# Altium schematic symbol library 连接器.SCHLIB: 54 symbols
Pins are listed as number, name and electrical type; pins without a type are passive.

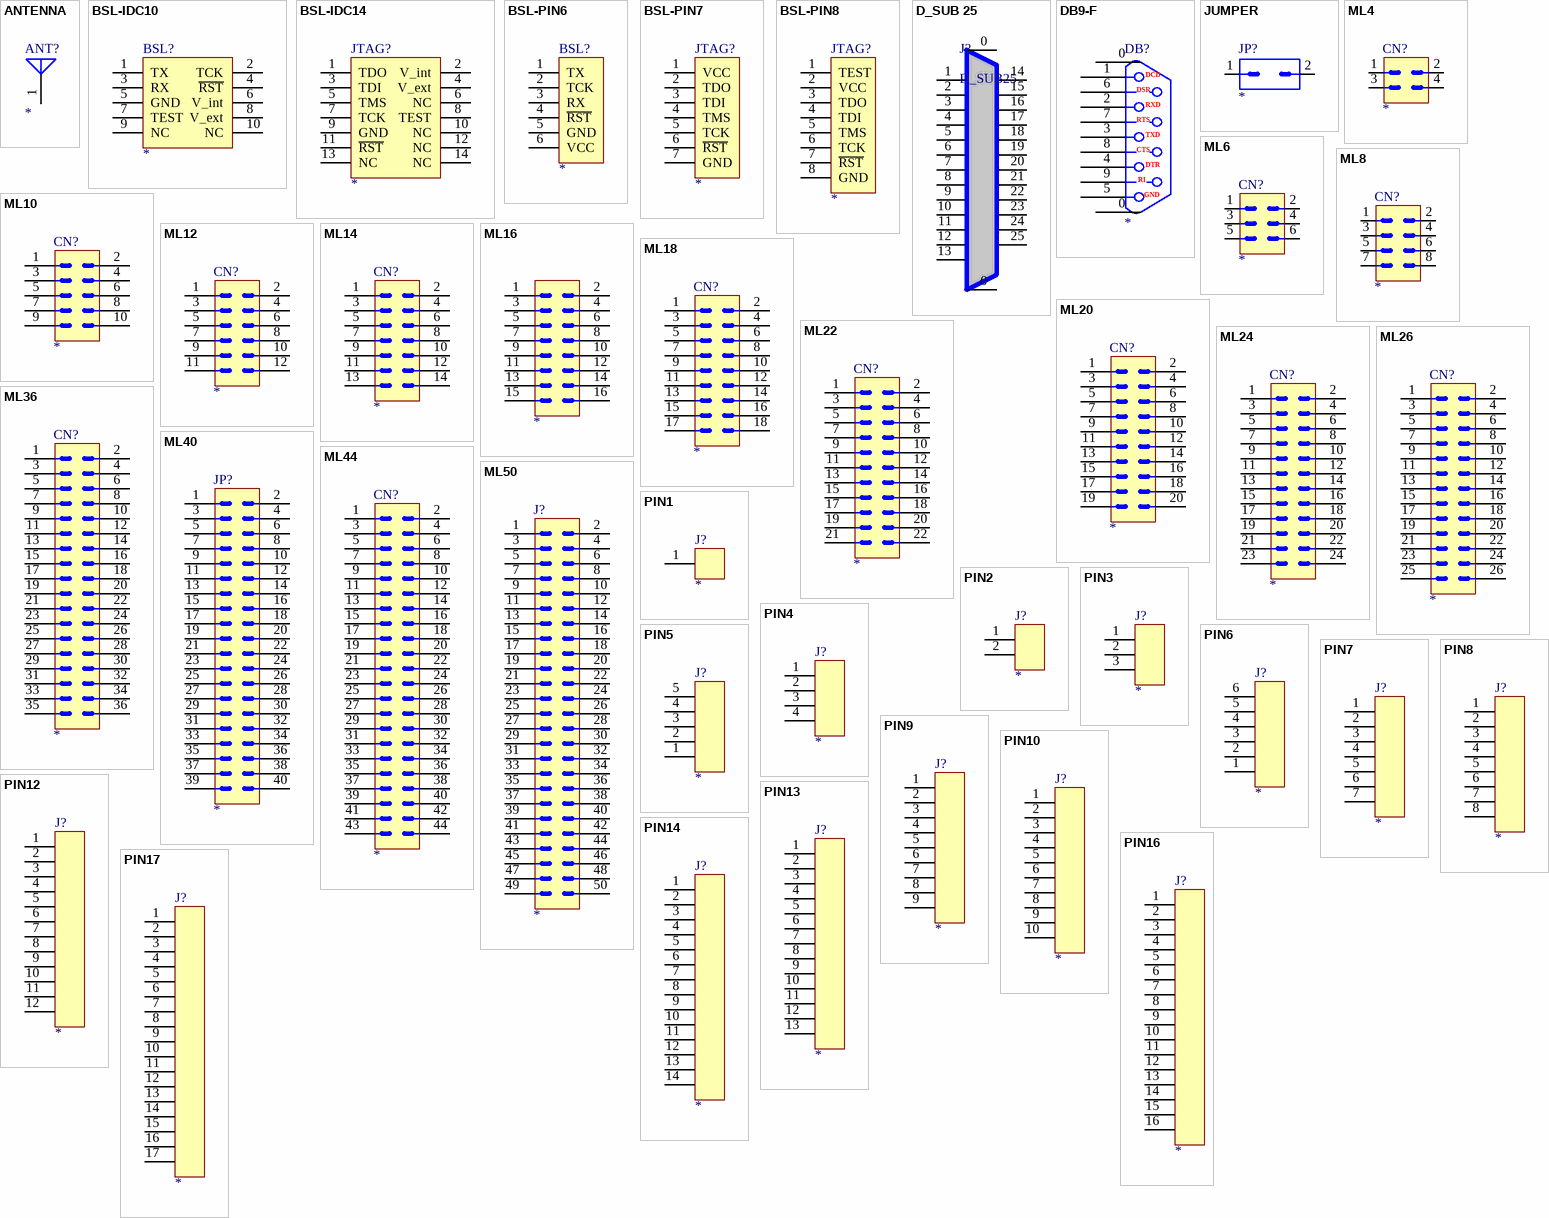
[diagram p0: symbols ANTENNA to PIN17]

## ANTENNA
designator ANT?
footprint AN1603
footprint AN9520
pins: 1

## BSL-IDC10
designator BSL?
pins: 1 TX, 2 TCK, 3 RX, 4 ~{RST}, 5 GND, 6 V_int, 7 TEST, 8 V_ext, 9 NC, 10 NC

## BSL-IDC14
designator JTAG?
footprint IDC14_A
footprint IDC14_A_JTAG
footprint IDC14_弯
footprint IDC14_2.0
pins: 1 TDO, 2 V_int, 3 TDI, 4 V_ext, 5 TMS, 6 NC, 7 TCK, 8 TEST, 9 GND, 10 NC, 11 ~{RST}, 12 NC, 13 NC, 14 NC

## BSL-PIN6
designator BSL?
footprint SIP6_BSL
footprint SIP6_2.0
footprint SIP6_1
footprint SIP6_1.27
pins: 1 TX, 2 TCK, 3 RX, 4 ~{RST}, 5 GND, 6 VCC

## BSL-PIN7
designator JTAG?
footprint SIP7_JTAG
footprint SIP7_2.0
footprint SIP7_1.27
pins: 1 VCC, 2 TDO, 3 TDI, 4 TMS, 5 TCK, 6 ~{RST}, 7 GND

## BSL-PIN8
designator JTAG?
footprint SIP8
footprint SIP8_2.0
pins: 1 TEST, 2 VCC, 3 TDO, 4 TDI, 5 TMS, 6 TCK, 7 ~{RST}, 8 GND

## D_SUB 25
designator J?, comment D_SUB25
pins: 0 25, 0 25, 1, 2, 3, 4, 5, 6, 7, 8, 9, 10, 11, 12, 13, 14, 15, 16, 17, 18, 19, 20, 21, 22, 23, 24, 25

## DB9-F
designator DB?
footprint DB9RA/F
footprint DB9/F
footprint DB9RA/M
footprint DB9/M
pins: 0, 0, 1 DCD, 2 RXD, 3 TXD, 4 DTR, 5 GND, 6 DSR, 7 RTS, 8 CTS, 9 RI

## JUMPER
designator JP?
footprint JMP
pins: 1, 2

## ML4
designator CN?
footprint IDC4
footprint IDC-4
pins: 1, 2, 3, 4

## ML6
designator CN?
footprint IDC6
footprint IDC-6
pins: 1, 2, 3, 4, 5, 6

## ML8
designator CN?
footprint IDC8
footprint IDC-8
pins: 1, 2, 3, 4, 5, 6, 7, 8

## ML10
designator CN?
footprint IDC10
footprint IDC-10
pins: 1, 2, 3, 4, 5, 6, 7, 8, 9, 10

## ML12
designator CN?
footprint IDC12
footprint IDC-12
pins: 1, 2, 3, 4, 5, 6, 7, 8, 9, 10, 11, 12

## ML14
designator CN?
footprint IDC14
footprint IDC-14
pins: 1, 2, 3, 4, 5, 6, 7, 8, 9, 10, 11, 12, 13, 14

## ML16
designator ?
pins: 1, 2, 3, 4, 5, 6, 7, 8, 9, 10, 11, 12, 13, 14, 15, 16

## ML18
designator CN?
footprint IDC18
footprint IDC-18
pins: 1, 2, 3, 4, 5, 6, 7, 8, 9, 10, 11, 12, 13, 14, 15, 16, 17, 18

## ML20
designator CN?
footprint IDC20
footprint IDC-20
footprint IDC20_1.0
pins: 1, 2, 3, 4, 5, 6, 7, 8, 9, 10, 11, 12, 13, 14, 15, 16, 17, 18, 19, 20

## ML22
designator CN?
footprint IDC22
pins: 1, 2, 3, 4, 5, 6, 7, 8, 9, 10, 11, 12, 13, 14, 15, 16, 17, 18, 19, 20, 21, 22

## ML24
designator CN?
footprint IDC24
footprint IDC24_2.0
pins: 1, 2, 3, 4, 5, 6, 7, 8, 9, 10, 11, 12, 13, 14, 15, 16, 17, 18, 19, 20, 21, 22, 23, 24

## ML26
designator CN?
footprint IDC26
pins: 1, 2, 3, 4, 5, 6, 7, 8, 9, 10, 11, 12, 13, 14, 15, 16, 17, 18, 19, 20, 21, 22, 23, 24, 25, 26

## ML36
designator CN?
footprint IDC36
pins: 1, 2, 3, 4, 5, 6, 7, 8, 9, 10, 11, 12, 13, 14, 15, 16, 17, 18, 19, 20, 21, 22, 23, 24, 25, 26, 27, 28, 29, 30, 31, 32, 33, 34, 35, 36

## ML40
designator JP?
footprint IDC40
pins: 1, 2, 3, 4, 5, 6, 7, 8, 9, 10, 11, 12, 13, 14, 15, 16, 17, 18, 19, 20, 21, 22, 23, 24, 25, 26, 27, 28, 29, 30, 31, 32, 33, 34, 35, 36, 37, 38, 39, 40

## ML44
designator CN?
footprint IDC44
pins: 1, 2, 3, 4, 5, 6, 7, 8, 9, 10, 11, 12, 13, 14, 15, 16, 17, 18, 19, 20, 21, 22, 23, 24, 25, 26, 27, 28, 29, 30, 31, 32, 33, 34, 35, 36, 37, 38, 39, 40, 41, 42, 43, 44

## ML50
designator J?
footprint IDC50
pins: 1, 2, 3, 4, 5, 6, 7, 8, 9, 10, 11, 12, 13, 14, 15, 16, 17, 18, 19, 20, 21, 22, 23, 24, 25, 26, 27, 28, 29, 30, 31, 32, 33, 34, 35, 36, 37, 38, 39, 40, 41, 42, 43, 44, 45, 46, 47, 48, 49, 50

## PIN1
designator J?
footprint P
pins: 1

## PIN2
designator J?
footprint SIP2
pins: 1, 2

## PIN3
designator J?
footprint SIP3
pins: 1, 2, 3

## PIN4
designator J?
footprint SIP4
pins: 1, 2, 3, 4

## PIN5
designator J?
footprint SIP5
pins: 1, 2, 3, 4, 5

## PIN6
designator J?
footprint SIP6
pins: 1, 2, 3, 4, 5, 6

## PIN7
designator J?
footprint SIP7
pins: 1, 2, 3, 4, 5, 6, 7

## PIN8
designator J?
footprint SIP8
pins: 1, 2, 3, 4, 5, 6, 7, 8

## PIN9
designator J?
footprint SIP9
pins: 1, 2, 3, 4, 5, 6, 7, 8, 9

## PIN10
designator J?
footprint SIP10
pins: 1, 2, 3, 4, 5, 6, 7, 8, 9, 10

## PIN12
designator J?
footprint SIP12
pins: 1, 2, 3, 4, 5, 6, 7, 8, 9, 10, 11, 12

## PIN13
designator J?
footprint SIP13
pins: 1, 2, 3, 4, 5, 6, 7, 8, 9, 10, 11, 12, 13

## PIN14
designator J?
footprint SIP14
pins: 1, 2, 3, 4, 5, 6, 7, 8, 9, 10, 11, 12, 13, 14

## PIN16
designator J?
pins: 1, 2, 3, 4, 5, 6, 7, 8, 9, 10, 11, 12, 13, 14, 15, 16

## PIN17
designator J?
footprint sip17
pins: 1, 2, 3, 4, 5, 6, 7, 8, 9, 10, 11, 12, 13, 14, 15, 16, 17

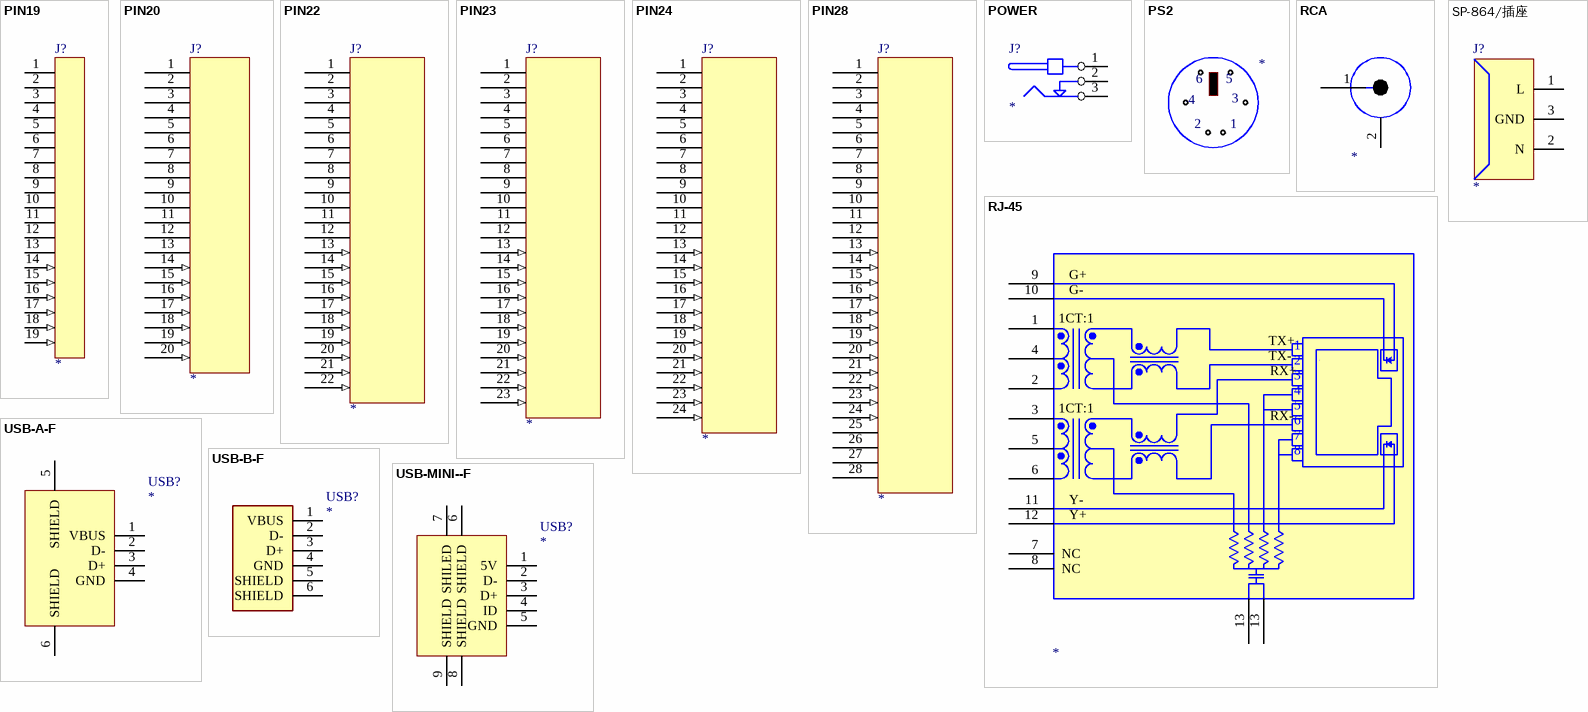
[diagram p1: symbols PIN19 to USB-MINI--F]

## PIN19
designator J?
pins: 1, 2, 3, 4, 5, 6, 7, 8, 9, 10, 11, 12, 13, 14 (in), 15 (in), 16 (in), 17 (in), 18 (in), 19 (in)

## PIN20
designator J?
footprint SIP20
pins: 1, 2, 3, 4, 5, 6, 7, 8, 9, 10, 11, 12, 13, 14 (in), 15 (in), 16 (in), 17 (in), 18 (in), 19 (in), 20 (in)

## PIN22
designator J?
footprint SIP20
pins: 1, 2, 3, 4, 5, 6, 7, 8, 9, 10, 11, 12, 13 (in), 14 (in), 15 (in), 16 (in), 17 (in), 18 (in), 19 (in), 20 (in), 21 (in), 22 (in)

## PIN23
designator J?
pins: 1, 2, 3, 4, 5, 6, 7, 8, 9, 10, 11, 12, 13 (in), 14 (in), 15 (in), 16 (in), 17 (in), 18 (in), 19 (in), 20 (in), 21 (in), 22 (in), 23 (in)

## PIN24
designator J?
footprint SIP24
pins: 1, 2, 3, 4, 5, 6, 7, 8, 9, 10, 11, 12, 13 (in), 14 (in), 15 (in), 16 (in), 17 (in), 18 (in), 19 (in), 20 (in), 21 (in), 22 (in), 23 (in), 24 (in)

## PIN28
designator J?
pins: 1, 2, 3, 4, 5, 6, 7, 8, 9, 10, 11, 12, 13 (in), 14 (in), 15 (in), 16 (in), 17 (in), 18 (in), 19 (in), 20 (in), 21 (in), 22 (in), 23 (in), 24 (in), 25, 26, 27, 28

## POWER
designator J?
footprint CZ-DC
footprint DC2
footprint CZ-12VDC
pins: 1, 2, 3

## PS2
designator ?
pins: 1, 2, 3, 4, 5, 6

## RCA
designator ?
pins: 1, 2

## RJ-45
designator ?
pins: 1 TD+, 2 TD-, 3 RD+, 4 TCT, 5 RCT, 6 RD-, 7 NC, 8 NC (power), 9 DG+, 10 DG-, 11 DY-, 12 DY+, 13 SGND (power), 13 SGND (power)
text: G+; G-; 1CT:1; TX+; TX-; RX+; RX-; Y-; Y+

## SP-864/插座
designator J?
footprint SP-864
pins: 1 L (oe), 2 N (oe), 3 GND (oe)

## USB-A-F
designator USB?
A口母口
footprint USB-A-F
pins: 1 VBUS, 2 D-, 3 D+, 4 GND, 5 SHIELD, 6 SHIELD

## USB-B-F
designator USB?
B口 母口
footprint USB-B-F
pins: 1 VBUS, 2 D-, 3 D+, 4 GND, 5 SHIELD, 6 SHIELD

## USB-MINI--F
designator USB?
footprint USB-MINI-F
pins: 1 5V, 2 D-, 3 D+, 4 ID, 5 GND, 6 SHIELD, 7 SHILED, 8 SHIELD, 9 SHIELD